# EAGLE library part 691412120024 (library Wuerth_Elektronik_eiCan_Terminal_Blocks_v2.0)
WR-TBL Serie 412 - 3.5mm Screwless 45° Entry Grey - 1.5mm2 Wires, 24 Pins
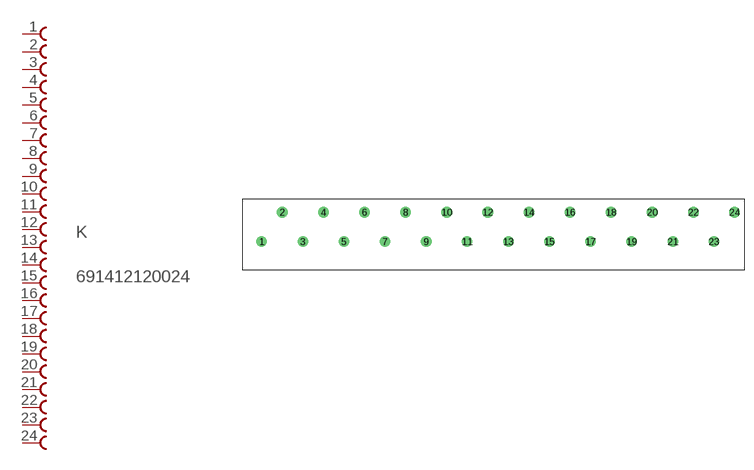
[diagram p231: symbol with the pads of 691412120024; footprint 691412120024]

Designator prefix K

## 691412120024  [691412120024]
1  1  pas
2  2  pas
3  3  pas
4  4  pas
5  5  pas
6  6  pas
7  7  pas
8  8  pas
9  9  pas
10  10  pas
11  11  pas
12  12  pas
13  13  pas
14  14  pas
15  15  pas
16  16  pas
17  17  pas
18  18  pas
19  19  pas
20  20  pas
21  21  pas
22  22  pas
23  23  pas
24  24  pas

## Footprint 691412120024 (pad centres in mm)
WR-TBL Serie 412 - 3.5mm Screwless 45° Entry Grey - 1.5mm2 Wires, 24 Pins
drill 1.2 round: 1 -76.97,0; 2 -73.47,5; 3 -69.97,0; 4 -66.47,5; 5 -62.97,0; 6 -59.47,5; 7 -55.97,0; 8 -52.47,5; 9 -48.97,0; 10 -45.47,5; 11 -42,0; 12 -38.5,5; 13 -35,0; 14 -31.5,5; 15 -28,0; 16 -24.5,5; 17 -21,0; 18 -17.5,5; 19 -14,0; 20 -10.5,5; 21 -7,0; 22 -3.5,5; 23 0,0; 24 3.5,5